# EAGLE library part ADM3488 (library ltc6802)
3.3 V Slew Rate Limited, Half- and Full-Duplex, RS-485/RS-422 Transceivers
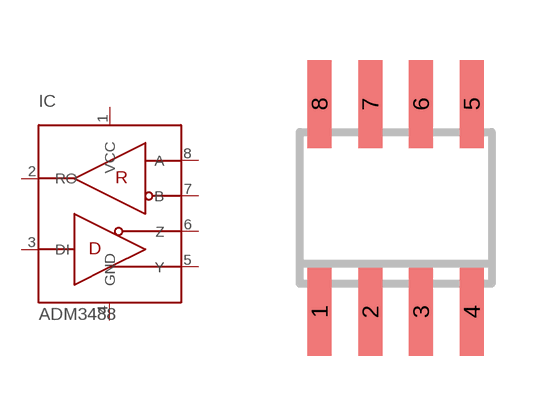
[diagram p2: symbol with the pads of SO08; footprint SO08]

Designator prefix IC

## ADM3488  [SO08]
1  VCC  pwr
2  RO  out
3  DI  in
4  GND  pwr
5  Y  out
6  Z  out
7  B  in
8  A  in

## Footprint SO08 (pad centres in mm)
SMALL OUTLINE INTEGRATED CIRCUIT body 3.9 mm/JEDEC MS-012AA
smd 0.6 x 2.2: 1 -1.905,-2.6; 2 -0.635,-2.6; 3 0.635,-2.6; 4 1.905,-2.6; 5 1.905,2.6; 6 0.635,2.6; 7 -0.635,2.6; 8 -1.905,2.6